# Altium footprint library MainPCB1.PcbLib: 49 footprints (part 2 of 4)
Each footprint in its own frame and in the unit in brackets; x right, y up, seen from the top. Pads: shape width x height; smd on the part's side, far side on the other; paste and mask are expansions set on the pad; w line width, h text height; cw(c..) or ccw(c..) is an arc to the next point about the centre after c.
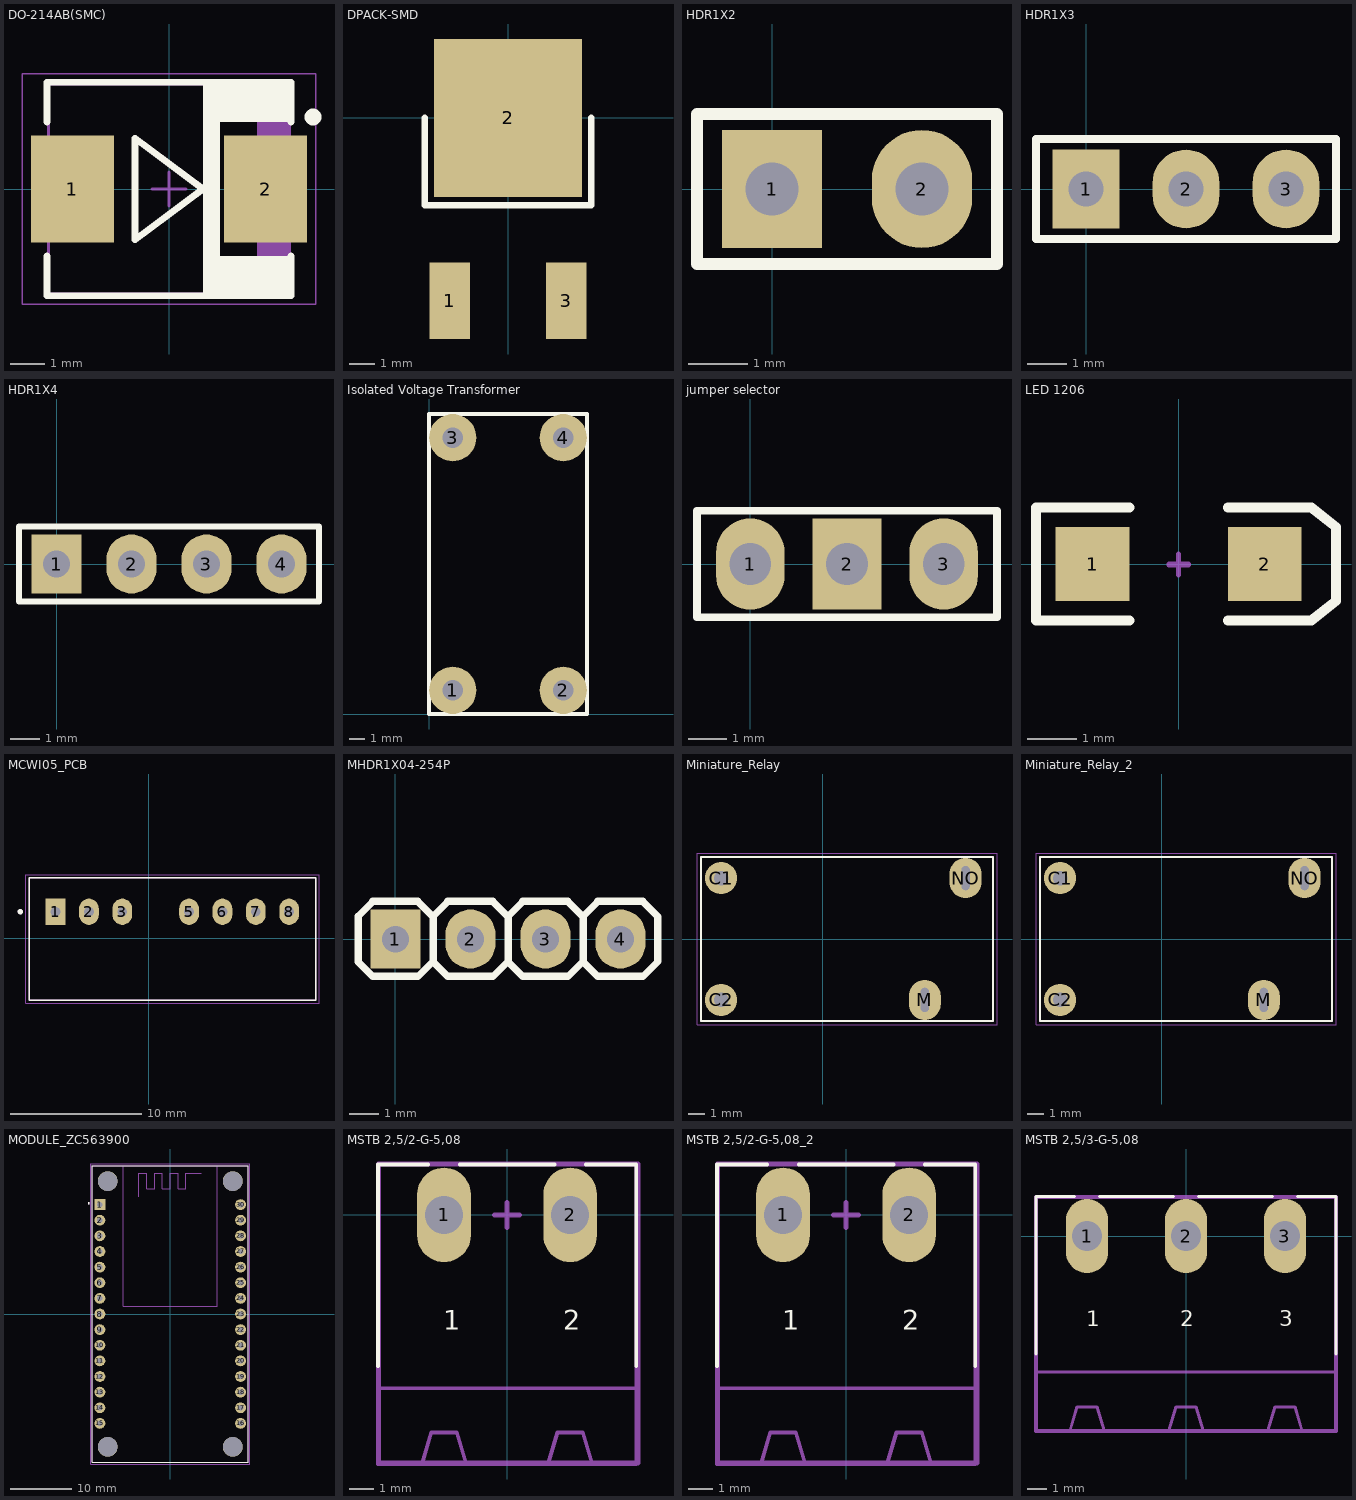
[diagram p1: the footprints below, top view; thin cyan lines are the x and y axes]

## DO-214AB(SMC) [mm] "Molded Diode, 2-Leads, Body 6/85x5/90mm, IPC Medium Density DESIGNER ABBAS BASEREH"
height 2.62
pads (2):
  rect 2.45x3.15 smd: 1(-2.85,0) 2(2.85,0)
Top Overlay:
  circle w0.25: c4.25,2.125 r0.125
  rectangle: 1,1.975 3.6,3.15
  rectangle: 0.999,-3.2 3.599,-1.975
  rectangle: 1,-2 1.5,1.975
  lines w0.2: -3.6,-1.975 -3.6,-3.15 3.6,-3.15 3.6,-1.975 ; -3.6,1.975 -3.6,3.15 3.6,3.15 3.6,1.975 ; -1,-1.5 -1,1.5 1,0 -1,-1.5
Mechanical 13:
  rectangle: 2.599,-3.11 3.555,3.11
  lines w0.1: -3.555,-3.11 -3.555,3.11 3.555,3.11 3.555,-3.11 -3.555,-3.11
Mechanical 15:
  lines w0.05: -4.325,-3.4 -4.325,3.4 4.325,3.4 4.325,-3.4 -4.325,-3.4
  lines w0.1: -0.5,0 0.5,0 ; 0,-0.5 0,0.5
3D body "DO-214AB(SMC).step": height 2.62, standoff 0, extent -3.775,-3.11 3.775,3.11

## DPACK-SMD [mm]
pads (3):
  rect 1.6x3 smd: 1(-2.285,-7.18) 3(2.285,-7.18)
  rect 5.8x6.2 smd: 2(0,0)
Top Overlay:
  lines w0.254: -3.27,0 -3.27,-3.429 3.27,-3.429 3.27,0

## HDR1X2 [mm] "Connector; Header; 2 Position"
pads (2):
  rect 1.7x2 hole 0.9: 1(0,0)
  oval 1.7x2 hole 0.9: 2(2.54,0)
Top Overlay:
  lines w0.2: -1.27,-1.27 -1.27,1.27 3.81,1.27 3.81,-1.27 -1.27,-1.27
3D body "User Library-Header1x2.STEP": height 8.79, standoff -2.19, extent -1.27,-1.28 3.81,1.26

## HDR1X3 [mm] "Connector; Header; 3 Position"
pads (3):
  rect 1.7x2 hole 0.9: 1(0,0)
  oval 1.7x2 hole 0.9: 2(2.54,0) 3(5.08,0)
Top Overlay:
  lines w0.2: -1.27,-1.27 6.35,-1.27 6.35,1.27 -1.27,1.27 -1.27,-1.27
3D body "Header3.STEP": height 8.38, standoff -2.54, extent -1.265,-1.27 6.355,1.27

## HDR1X4 [mm] "Connector; Header; 4 Position"
pads (4):
  rect 1.7x2 hole 0.9: 1(0,0)
  oval 1.7x2 hole 0.9: 2(2.54,0) 3(5.08,0) 4(7.62,0)
Top Overlay:
  lines w0.2: -1.27,-1.27 8.89,-1.27 8.89,1.27 -1.27,1.27 -1.27,-1.27
3D body "Header4.STEP": height 8.38, standoff -2.54, extent -1.274,-1.279 8.886,1.261

## Isolated Voltage Transformer [mm]
height 18
pads (4):
  round 3 hole 1.3: 1(1.5,1.5) 2(8.5,1.5) 3(1.5,17.5) 4(8.5,17.5)
Top Overlay:
  lines w0.254: 0,0 0,19 10,19 10,0 0,0
3D body "zmpt107.stp": height 18.1, standoff -5.2, extent -0.147,-0.125 10.053,19.175

## jumper selector [mm]
pads (3):
  oval 1.8x2.4 hole 1.1: 1(0,0) 3(5.08,0)
  rect 1.8x2.4 hole 1.1: 2(2.54,0)
Top Overlay:
  lines w0.2: -1.4,-1.4 6.48,-1.4 6.48,1.4 -1.4,1.4 -1.4,-1.4
3D body "Header3.STEP": height 8.38, standoff -2.54, extent -1.245,-1.27 6.375,1.27
3D body: height 10.16, standoff 3.05, extent -1.245,-1.27 3.835,1.27

## LED 1206 [mm]
pads (2):
  rect 1.5x1.5 smd: 1(-1.75,0) 2(1.75,0)
Top Overlay:
  lines w0.2: -1,-1.15 -2.9,-1.15 -2.9,1.15 -1,1.15 ; 1,-1.15 2.7,-1.15 3.2,-0.75 3.2,0.75 2.7,1.15 1,1.15
Mechanical 1:
  lines w0.1: -0.2,-0.025 0.2,-0.025 ; -0.2,0 0.2,0 ; 0,-0.225 0,0.175 ; 0,-0.2 0,0.2
3D body "SW3dPS-LED_SMD_SML010L_Red.STEP": height 1.36, standoff 0.01, extent -1.65,-0.722 1.65,0.728

## MCWI05_PCB [mm]
pads (7):
  rect 1.5x2 hole 0.75: 1(-7.112,2.032)
  oval 1.5x2 hole 0.75: 2(-4.572,2.032) 3(-2.032,2.032) 5(3.048,2.032) 6(5.588,2.032) 7(8.128,2.032) 8(10.668,2.032)
Top Overlay:
  circle w0.2: c-9.793,2.037 r0.1
  lines w0.127: -9.112,-4.693 12.688,-4.693 12.688,4.607 -9.112,4.607 -9.112,-4.693
Mechanical 13:
  circle w0.2: c-9.793,2.037 r0.1
  lines w0.127: -9.112,-4.693 12.688,-4.693 12.688,4.607 -9.112,4.607 -9.112,-4.693
Mechanical 15:
  lines w0.05: -9.362,-4.943 12.938,-4.943 12.938,4.857 -9.362,4.857 -9.362,-4.943
3D body "12.stp": height 11.83, standoff -2.56, extent -9.122,-4.953 12.678,4.619

## MHDR1X04-254P [mm] "Male Header 1X04 with 2.54 mm Pitch"
height 8.4
pads (4):
  rect 1.7x2 hole 0.9: 1(0,0)
  oval 1.7x2 hole 0.9: 2(2.54,0) 3(5.08,0) 4(7.62,0)
Top Overlay:
  lines w0.254: 1.27,-0.762 1.777,-1.268 3.302,-1.268 3.81,-0.76 3.81,0.762 3.301,1.272 1.778,1.272 1.27,0.764 ; 3.81,-0.762 4.317,-1.268 5.842,-1.268 6.35,-0.76 6.35,0.762 5.841,1.272 4.318,1.272 3.81,0.764 ; 6.35,-0.762 6.857,-1.268 8.382,-1.268 8.89,-0.76 8.89,0.762 8.381,1.272 6.858,1.272 6.35,0.764 ; -1.27,-0.762 -1.27,0.764 -0.762,1.272 0.761,1.272 1.27,0.762 1.27,-0.76 0.762,-1.268 -0.763,-1.268 -1.27,-0.762
3D body "PIN.STEP": height 8.43, standoff -2.49, extent 6.35,-1.27 8.89,1.27
3D body "PIN_mid.STEP": height 8.43, standoff -2.49, extent 3.81,-1.27 6.35,1.27
3D body "PIN_mid.STEP": height 8.43, standoff -2.49, extent 1.27,-1.27 3.81,1.27
3D body "PIN.STEP": height 8.43, standoff -2.49, extent -1.27,-1.27 1.27,1.27

## Miniature_Relay [mm]
pads (4):
  round 2 hole 0.9: C1(-6.35,3.8) C2(-6.35,-3.8)
  oval 2x2.5 hole 1.5 slot 0.5 at 0 deg: M(6.35,-3.8) NO(8.89,3.8)
Top Overlay:
  lines w0.127: -7.6,-5.1 -7.6,5.1 10.6,5.1 10.6,-5.1 -7.6,-5.1
Mechanical 13:
  lines w0.127: -7.6,-5.1 -7.6,5.1 10.6,5.1 10.6,-5.1 -7.6,-5.1
Mechanical 15:
  lines w0.05: -7.85,-5.35 -7.85,5.35 10.85,5.35 10.85,-5.35 -7.85,-5.35
3D body "4.stp": height 15.86, standoff -3.65, extent -7.62,-5.12 10.58,5.08

## Miniature_Relay_2 [mm]
pads (4):
  round 2 hole 0.9: C1(-6.35,3.8) C2(-6.35,-3.8)
  oval 2x2.5 hole 1.5 slot 0.5 at 0 deg: M(6.35,-3.8) NO(8.89,3.8)
Top Overlay:
  lines w0.127: -7.6,-5.1 -7.6,5.1 10.6,5.1 10.6,-5.1 -7.6,-5.1
Mechanical 13:
  lines w0.127: -7.6,-5.1 -7.6,5.1 10.6,5.1 10.6,-5.1 -7.6,-5.1
Mechanical 15:
  lines w0.05: -7.85,-5.35 -7.85,5.35 10.85,5.35 10.85,-5.35 -7.85,-5.35
3D body "4.stp": height 15.86, standoff -3.65, extent -7.62,-5.12 10.58,5.08

## MODULE_ZC563900 [mil]
pads (34):
  rect 69x69 hole 35: 1(-450,700)
  round 69 hole 35: 2(-450,600) 3(-450,500) 4(-450,400) 5(-450,300) 6(-450,200) 7(-450,100) 8(-450,0) 9(-450,-100) 10(-450,-200) 11(-450,-300) 12(-450,-400) 13(-450,-500) 14(-450,-600) 15(-450,-700) 16(450,-700) 17(450,-600) 18(450,-500) 19(450,-400) 20(450,-300) 21(450,-200) 22(450,-100) 23(450,0) 24(450,100) 25(450,200) 26(450,300) 27(450,400) 28(450,500) 29(450,600) 30(450,700)
  round 125.98 hole 125.98 unplated: ""(-400,-850) ""(-400,850) ""(400,-850) ""(400,850)
Top Overlay:
  circle w7.87: c-521.65,708.66 r3.94
  lines w5: -500,-950 500,-950 500,950 -500,950 -500,-950
Mechanical 13:
  circle w7.87: c-521.65,708.66 r3.94
  lines w5: -200,750 -200,900 -150,900 -150,800 -100,800 -100,900 -50,900 -50,800 0,800 0,900 50,900 50,800 100,800 100,900 200,900 ; -300,950 300,950 ; -300,950 -500,950 -500,-950 500,-950 500,950 300,950 ; -300,950 -300,50 300,50 300,950
Mechanical 15:
  lines w1.97: -509.84,-959.84 -509.84,959.84 509.84,959.84 509.84,-959.84 -509.84,-959.84
3D body "User Library-NODEMCU_DEVKIT_V1_0.STEP": height 378.8, standoff -101.2, extent -507.48,-974.45 507.48,954.42

## MSTB 2,5/2-G-5,08 [mil] "Header, Nominal current: 12 A Rated voltage (III/2): 320 V Number of positions: 2 Pitch: 5.08 mm Color: green Contact surface: Tin Assembly: Soldering DESIGNER:ABBAS BASEREH"
height 338.58
pads (2):
  oval 85x150 hole 60: 1(-100,0) 2(100,0)
Top Overlay:
  lines w6: -204.72,-239.72 -204.72,80 -125,80 ; -75,80 75,80 ; 125,80 204.72,80 204.72,-239.72
  text "1" at -101.26,-182.48 h31.5
  text "2" at 88.74,-182.48 h31.5
Mechanical 13:
  lines w6: -204.72,-275 204.72,-275 ; -125,80 -204.72,80 -204.72,-239.72 -204.72,-395 -135,-395 ; -75,80 75,80 ; 125,80 204.72,80 204.72,-239.72 204.72,-395 135,-395 ; -135,-395 -65,-395 ; -135,-395 -120,-345 -80,-345 -65,-395 ; -65,-395 65,-395 ; 65,-395 135,-395 ; 65,-395 80,-345 120,-345 135,-395
Mechanical 15:
  lines w7.87: -19.68,0 19.68,0 ; 0,-19.68 0,19.68 ; -203.74,-393.7 -203.74,80.71 207.68,80.71 207.68,-393.7 -203.74,-393.7
3D body "User Library-MSTB 2,5-2-G-5,08 1770711.STEP": height 339.58, standoff -136.8, extent -199.21,-393.75 200.79,78.79

## MSTB 2,5/2-G-5,08_2 [mil]
pads (2):
  oval 85x150 hole 60: 1(-100,0) 2(100,0)
Top Overlay:
  lines w6: -204.72,-239.72 -204.72,80 -125,80 ; -75,80 75,80 ; 125,80 204.72,80 204.72,-239.72
  text "2" at 88.74,-182.48 h31.5
  text "1" at -101.26,-182.48 h31.5
Mechanical 13:
  lines w6: -204.72,-275 204.72,-275 ; -125,80 -204.72,80 -204.72,-239.72 -204.72,-395 -135,-395 ; -75,80 75,80 ; 125,80 204.72,80 204.72,-239.72 204.72,-395 135,-395 ; -135,-395 -120,-345 -80,-345 -65,-395 ; -135,-395 -65,-395 ; -65,-395 65,-395 ; 65,-395 80,-345 120,-345 135,-395 ; 65,-395 135,-395
Mechanical 15:
  lines w7.87: -19.68,0 19.68,0 ; 0,-19.68 0,19.68 ; -203.74,-393.7 207.68,-393.7 207.68,80.71 -203.74,80.71 -203.74,-393.7
3D body "User Library-MSTB 2,5-2-G-5,08 1770711.STEP": height 339.58, standoff -136.8, extent -199.21,-393.75 200.79,78.79

## MSTB 2,5/3-G-5,08 [mil] "Header, Nominal current: 12 A Rated voltage (III/2): 320 V Number of positions: 3 Pitch: 5.08 mm Color: green Contact surface: Tin Assembly: Soldering  DESIGNER:ABBAS BASEREH"
height 338.58
pads (3):
  oval 85x150 hole 60: 1(-200,0) 2(0,0) 3(200,0)
Top Overlay:
  lines w6: -303.15,-238.15 -303.15,80 -225,80 ; -175,80 -25,80 ; 25,80 175,80 ; 225,80 303.15,80 303.15,-238.15
  text "1" at -201.26,-182.48 h31.5
  text "2" at -11.26,-182.48 h31.5
  text "3" at 188.74,-182.48 h31.5
Mechanical 13:
  lines w6: -303.15,-275 303.15,-275 ; -225,80 -303.15,80 -303.15,-238.15 -303.15,-395 -235,-395 ; -175,80 -25,80 ; 25,80 175,80 ; 225,80 303.15,80 303.15,-238.15 303.15,-395 235,-395 ; -235,-395 -165,-395 ; -235,-395 -220,-345 -180,-345 -165,-395 ; -165,-395 -35,-395 ; -35,-395 35,-395 ; -35,-395 -20,-345 20,-345 35,-395 ; 35,-395 165,-395 ; 165,-395 180,-345 220,-345 235,-395 ; 165,-395 235,-395
Mechanical 15:
  lines w7.87: -303.15,-393.7 303.15,-393.7 303.15,78.74 -303.15,78.74 -303.15,-393.7
3D body "User Library-MSTB 2,5-3-G-5,08 1759020.STEP": height 339.58, standoff -136.8, extent -300,-393.79 300,78.74